# Altium footprint library VFD_CLOCK.PcbLib: 11 footprints
Each footprint in its own frame and in the unit in brackets; x right, y up, seen from the top. Pads: shape width x height; smd on the part's side, far side on the other; paste and mask are expansions set on the pad; w line width, h text height; cw(c..) or ccw(c..) is an arc to the next point about the centre after c.
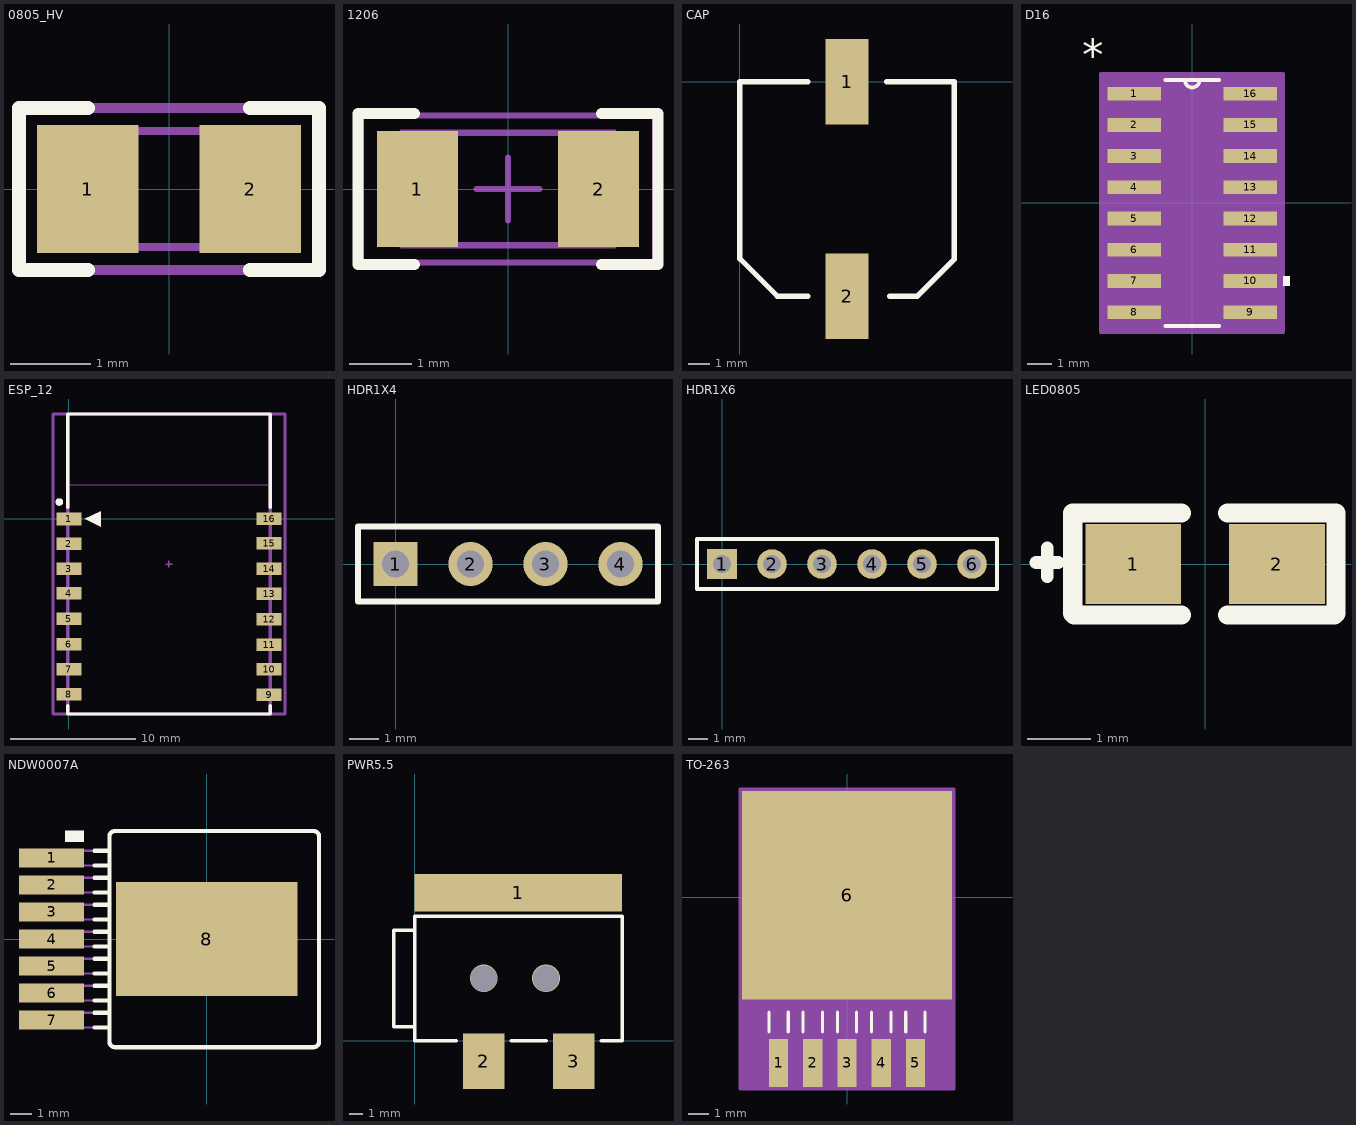
[diagram p0: the footprints below, top view; thin cyan lines are the x and y axes]

## 0805_HV [mil] "0805 with 30mil clearance between pads"
height 57.09
pads (2):
  rect 50x63 smd: 1(-40,0) 2(40,0)
Top Overlay:
  lines w7: -40,-40 -74,-40 -74,0 -74,40 -40,40 ; 40,-40 74,-40 74,0 74,40 40,40
Mechanical 5:
  lines w5: -74,-40 74,-40 74,40 -74,40 -74,-40
Mechanical 13:
  lines w3.94: -25.59,-28.54 -25.59,28.54 ; 25.59,-28.54 25.59,28.54 ; -43.31,-28.54 43.31,-28.54 43.31,28.54 -43.31,28.54 -43.31,-28.54
3D body: height 57.09, standoff 0, extent -43.29,-28.52 -25.61,28.52
3D body: height 57.09, standoff 0, extent -25.57,-28.52 25.57,28.52
3D body: height 57.09, standoff 0, extent 25.61,-28.52 43.29,28.52

## 1206 [mm] "1206 from SM-752 data"
height 1.35
pads (2):
  rect 1.3x1.85 smd: 1(-1.45,0) 2(1.45,0)
Top Overlay:
  lines w0.178: -1.5,-1.21 -2.4,-1.21 -2.4,1.21 -1.5,1.21 ; 1.5,-1.21 2.4,-1.21 2.4,1.21 1.5,1.21
Mechanical 5:
  lines w0.1: -1.7,-0.9 1.7,-0.9 1.7,0.9 -1.7,0.9 -1.7,-0.9
  text ".Designator" at -1.475,-0.4 h0.81
Mechanical 13:
  lines w0.1: -1.2,-0.9 -1.2,0.9 ; 1.2,-0.9 1.2,0.9 ; -1.7,-0.9 1.7,-0.9 1.7,0.9 -1.7,0.9 -1.7,-0.9
Mechanical 15:
  lines w0.1: -0.5,0 0.5,0 ; 0,-0.5 0,0.5 ; -2.35,-1.175 2.35,-1.175 2.35,1.175 -2.35,1.175 -2.35,-1.175
3D body: height 1.35, standoff 0, extent -1.699,-0.899 -1.201,0.899
3D body: height 1.35, standoff 0, extent -1.199,-0.899 1.199,0.899
3D body: height 1.35, standoff 0, extent 1.201,-0.899 1.699,0.899

## CAP [mm]
pads (2):
  rect 2x4 smd: 1(5,0) 2(5,-10)
Top Overlay:
  lines w0.254: 3.175,-10 1.745,-10 0,-8.255 0,0 3.175,0 ; 6.858,0 10,0 10,-8.288 8.288,-10 6.985,-10

## D16 [mil]
pads (16):
  rect 86x22 smd: 1(-93,175) 2(-93,125) 3(-93,75) 4(-93,25) 5(-93,-25) 6(-93,-75) 7(-93,-125) 8(-93,-175) 9(93,-175) 10(93,-125) 11(93,-75) 12(93,-25) 13(93,25) 14(93,75) 15(93,125) 16(93,175)
Top Overlay:
  region: 146,-117.5 156,-117.5 156,-132.5 146,-132.5
  lines w6: -42.89,-197 42.89,-197 ; -42.89,197 42.89,197 ; -12,197 ccw(c0,197) 12,197
  text "*" at -175.92,212.59 h50
Mechanical 13:
  lines w0: -12,197 ccw(c0,197) 12,197
  text "*" at -175.92,212.59 h50
Mechanical 15:
  region: 146,-207 -146,-207 -146,207 146,207
  lines w6: -146,-207 146,-207 146,207 -146,207 -146,-207
3D body "D16.stp": height 69.1, standoff 0, extent -122,-197 122,197

## ESP_12 [mm]
pads (16):
  rect 2x1 smd: 1(0,0) 2(0,-1.97) 3(0,-3.97) 4(0,-5.94) 5(0,-7.98) 6(0,-9.99) 7(0,-11.98) 8(0,-13.99) 9(16,-14.03) 10(16,-11.99) 11(16,-10.03) 12(16,-8.01) 13(16,-5.95) 14(16,-3.97) 15(16,-1.95) 16(16,0.03)
Top Overlay:
  circle w0.3: c-0.762,1.356 r0.15
  region: 1.27,0 2.54,-0.635 2.54,0.635
  lines w0.254: -0.084,-14.916 -0.084,-15.568 16.084,-15.568 16.084,-14.916 ; -0.084,0.916 -0.084,8.371 16.084,8.371 16.084,0.916
Mechanical 13:
  lines w0.051: -0.127,2.727 -0.127,8.382 16.129,8.382 16.129,2.727 -0.127,2.727
  lines w0.254: -0.084,-15.568 16.084,-15.568 16.084,8.371 -0.084,8.371 -0.084,-15.568
  text "CUTOUT POLYGON" at 0.127,7.366 h0.25
  text "ANTENNA AREA" at 0.127,7.874 h0.25
Mechanical 15:
  lines w0.1: 7.746,-3.598 8.254,-3.598 ; 8,-3.852 8,-3.344
  lines w0.254: -1.27,-15.568 -1.27,8.371 17.272,8.371 17.272,-15.568 -1.27,-15.568

## HDR1X4 [mm] "Connector; Header; 4 Position"
pads (4):
  rect 1.5x1.5 hole 0.9: 1(0,0)
  round 1.5 hole 0.9: 2(2.54,0) 3(5.08,0) 4(7.62,0)
Top Overlay:
  lines w0.2: -1.27,-1.27 -1.27,1.27 8.89,1.27 8.89,-1.27 -1.27,-1.27

## HDR1X6 [mm] "Connector; Header; 6 Position"
pads (6):
  rect 1.5x1.5 hole 0.9: 1(0,0)
  round 1.5 hole 0.9: 2(2.54,0) 3(5.08,0) 4(7.62,0) 5(10.16,0) 6(12.7,0)
Top Overlay:
  lines w0.2: -1.27,-1.27 -1.27,1.27 13.97,1.27 13.97,-1.27 -1.27,-1.27

## LED0805 [mil]
height 322.83
pads (2):
  rect 60x50 smd: 1(-45,0) 2(45,0)
Top Overlay:
  lines w8: -106,1 -92,1 ; -99,-8 -99,10
  lines w12: -83,-31 -83,32 -15,32 ; -82,-32 -15,-32 ; 14,-32 81,-32 ; 14,32 82,32 82,-31

## NDW0007A [mm]
pads (8):
  rect 3.06x0.89 smd paste+0 mask+0.051: 1(-7.305,3.81) 2(-7.305,2.54) 3(-7.305,1.27) 4(-7.305,0) 5(-7.305,-1.27) 6(-7.305,-2.54) 7(-7.305,-3.81)
  rect 8.54x5.35 smd paste+0 mask+0.051: 8(0,0)
Top Overlay:
  region: -5.8,5.1 -6.65,5.1 -6.65,4.575 -5.8,4.575
  lines w0.2: -5.28,-4.16 -4.58,-4.16 -4.58,-3.47 -5.28,-3.47 ; -5.28,-2.89 -4.58,-2.89 -4.58,-2.2 -5.28,-2.2 ; -5.28,-1.62 -4.58,-1.62 -4.58,-0.93 -5.28,-0.93 ; -5.28,-0.35 -4.58,-0.35 -4.58,0.34 -5.28,0.34 ; -5.28,0.92 -4.58,0.92 -4.58,1.61 -5.28,1.61 ; -5.28,2.19 -4.58,2.19 -4.58,2.88 -5.28,2.88 ; -5.28,3.46 -4.58,3.46 -4.58,4.15 -5.28,4.15 ; -4.58,-4.837 ccw(c-4.33,-4.835) -4.332,-5.085 -4.33,-5.085 5.02,-5.085 5.022,-5.085 ccw(c5.02,-4.835) 5.27,-4.837 5.27,-4.835 5.27,4.825 5.27,4.827 ccw(c5.02,4.825) 5.022,5.075 5.02,5.075 -4.33,5.075 -4.332,5.075 ccw(c-4.33,4.825) -4.58,4.827 -4.58,4.825 -4.58,-4.835 -4.58,-4.837
Mechanical 13:
  lines w0.1: -4.332,-5.085 cw(c-4.33,-4.835) -4.58,-4.837 -4.58,-4.835 -4.58,4.825 -4.58,4.827 cw(c-4.33,4.825) -4.332,5.075 ; -4.33,-5.085 5.02,-5.085 ; -4.33,5.075 5.02,5.075 ; 5.022,-5.085 ccw(c5.02,-4.835) 5.27,-4.837 ; 5.022,5.075 cw(c5.02,4.825) 5.27,4.827 ; 5.27,-4.835 5.27,4.825 ; -8.5,-4.16 -5.28,-4.16 -4.58,-4.16 -4.58,-3.47 -5.28,-3.47 -8.5,-3.47 -8.5,-4.16 ; -8.5,-2.89 -5.28,-2.89 -4.58,-2.89 -4.58,-2.2 -5.28,-2.2 -8.5,-2.2 -8.5,-2.89 ; -8.5,-1.62 -5.28,-1.62 -4.58,-1.62 -4.58,-0.93 -5.28,-0.93 -8.5,-0.93 -8.5,-1.62 ; -8.5,-0.35 -5.28,-0.35 -4.58,-0.35 -4.58,0.34 -5.28,0.34 -8.5,0.34 -8.5,-0.35 ; -8.5,0.92 -5.28,0.92 -4.58,0.92 -4.58,1.61 -5.28,1.61 -8.5,1.61 -8.5,0.92 ; -8.5,2.19 -5.28,2.19 -4.58,2.19 -4.58,2.88 -5.28,2.88 -8.5,2.88 -8.5,2.19 ; -8.5,3.46 -5.28,3.46 -4.58,3.46 -4.58,4.15 -5.28,4.15 -8.5,4.15 -8.5,3.46
3D body: height 0.25, standoff 0, extent 0,0 0.254,0.254

## PWR5.5 [mm]
pads (3):
  rect 15x2.7 smd: 1(7.5,10.7)
  rect 3x4 smd: 2(5,-1.5) 3(11.5,-1.5)
via 9.5,4.5 diameter 2 hole 1.9
via 5,4.5 diameter 2 hole 1.9
Top Overlay:
  lines w0.254: 0,1 -1.5,1 -1.5,8 0,8 ; 3,0 0,0 0,9 15,9 15,0 13.5,0 ; 7,0 9.5,0

## TO-263 [mil]
pads (6):
  rect 38x94 smd: 1(-134,-324) 2(-67,-324) 3(0,-324) 4(67,-324) 5(134,-324)
  rect 410x408 smd: 6(0,4)
Top Overlay:
  lines w6: -153,-263 -153,-224 ; -115,-263 -115,-224 ; -86,-263 -86,-224 ; -48,-263 -48,-224 ; -19,-263 -19,-224 ; 19,-263 19,-224 ; 48,-263 48,-224 ; 86,-263 86,-224 ; 115,-263 115,-224 ; 153,-263 153,-224
Mechanical 13:
  text "*" at -192.5,-324 h50
Mechanical 15:
  region: 209,-375 -209,-375 -209,212 209,212
  lines w6: -209,-375 209,-375 209,212 -209,212 -209,-375
3D body "TS5B_L.stp": height 189.1, standoff -2, extent -205,-277.5 205,200.1